# Altium footprint library PcbLib1.PcbLib: 17 footprints (part 2 of 2)
Each footprint in its own frame and in the unit in brackets; x right, y up, seen from the top. Pads: shape width x height; smd on the part's side, far side on the other; paste and mask are expansions set on the pad; w line width, h text height; cw(c..) or ccw(c..) is an arc to the next point about the centre after c.
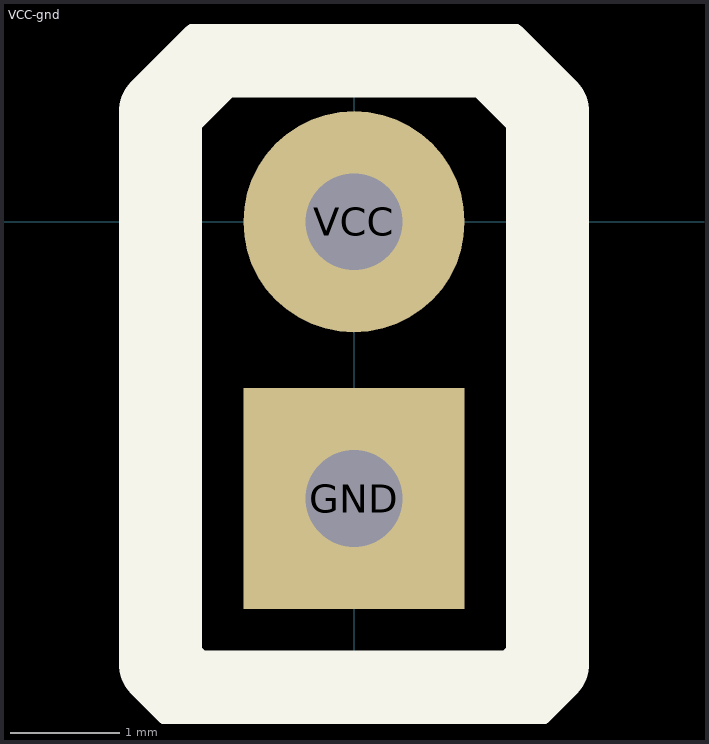
[diagram p1: the footprint, top view; thin cyan lines are the x and y axes]

## VCC-gnd [mil]
pads (2):
  rect 80x80 hole 35: GND(0,-100)
  round 80 hole 35: VCC(0,0)
Top Overlay:
  lines w30: -70,-160 -60,-170 60,-170 70,-160 70,40 50,60 -50,60 -70,40 -70,-160